# Altium schematic symbol library 0436500227.SchLib: 1 symbol
Pins are listed as number, name and electrical type; pins without a type are passive.

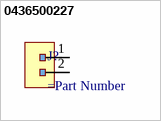
[diagram p0: symbol 0436500227]

## 0436500227
designator J?
=Description; Manufacturer: Molex; Manufacturer Part Number: 43650-0227; Manufacturer Series: 43650; Connector Type: Power,Rectangular; Option: General Purpose; Filter Feature: No; Mating Information: MULTIPLE MATING PARTS AVAILABLE; Number of Rows Loaded: 1; Number of Contacts: 2; Board Mounting Option: PEG; Body/Shell Style: RECEPTACLE; Contact Pattern: RECTANGULAR; Contact Resistance: 10mR; Contact Style: SQ PIN-SKT; Dielectric Withstanding Voltage (AC): 1.5kV; Durability: 30Cycles; Insertion Force-Max: 8.0064N; Insulation Resistance: 1GR; Polarization Key: POLARIZED HOUSING; Rated Current (Signal): 5A; Withdrawl Force-Min: 3.614N; Body Breadth: 0.219inch; Body Depth: 0.39inch; Body Length: 0.38inch; Mating Contact Pitch: 0.118inch; Mounting Option 1: POLARIZED LCK; Mounting Option 2: LOCKING; Plating Thickness: 100uin; Reference Standard: UL; Reliability: COMMERCIAL; Supplier: Mouser; Supplier Part Number: 538-43650-0227; RoHS: Yes; Category: Headers and Wire Housings; Stock: 7797; Mounting Technology: Board; Contact Material: Brass; Contact Finish - Mating: SN; Contact Finish - Termination: TIN/LEAD OVER NICKEL; Insulation Color: Black; Insulation Material: Polymer; Shell Material: Polymer; Min Operating Temperature: -40°C; Max Operating Temperature: 105°C; Contact Gender: Male; Mixed Contacts: No; Mounting Style: STRAIGHT; Termination: Solder; Empty Shell: No; Number Of Connectors: 1; Number Of PCB Rows: 1; PCB Contact Pattern: RECTANGULAR; Terminal Pitch: 2.9972mm; Terminal Length: 0.125inch; Flammability Rating: UL94 V-0; DIN Conformance: No; IEC Conformance: No; MIL Conformance: No; Reach SVHC Compliant: Yes; RoHS Compliant: Yes; ComponentLink1URL: https://datasheet.ciiva.com:443/pdfs/VipMasterIC/IC/MOLE/MOLES07498/MOLES07498-1.pdf?src-supplier=IHS+Markit; ComponentLink1Description: https://datasheet.ciiva.com:443/pdfs/VipMasterIC/IC/MOLE/MOLES07498/MOLES07498-1.pdf?src-supplier=IHS+Markit
pins: 1, 2